# Altium schematic symbol library WCAP-PSLC.SchLib: 56 symbols (part 1 of 2)
Pins are listed as number, name and electrical type; pins without a type are passive.

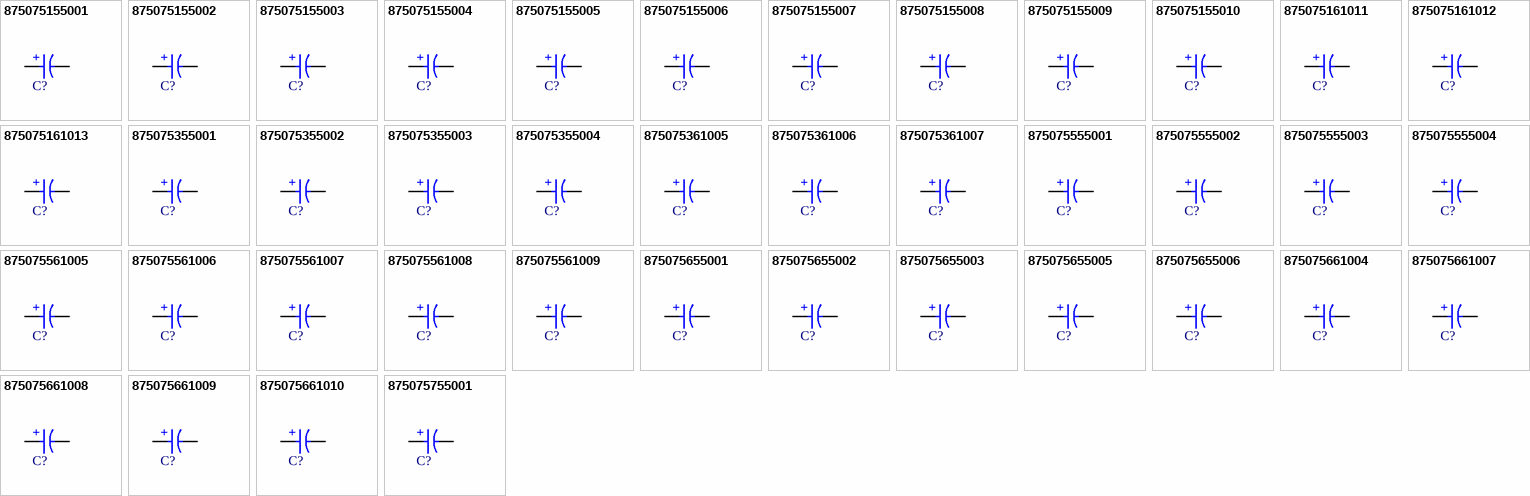
[diagram p0: symbols 875075155001 to 875075755001]

## 875075155001
designator C?, comment 180µF  (value not drawn)
WCAP-PSLC Aluminum Polymer Capacitor, V-Chip SMT, D8 x H11.7mm, 180µF, 6.3V; Manufacturer Part Number: 875075155001; Manufacturer: Wurth Elektronik; Capacitance Tolerance: +/-20%; Dissipation Factor: 8%; Endurance: 2000h; ESR: 8mΩ; Leakage Current: 226.8µA; Ripple Current: 5200mA; Technical Reference: PSEE117181M6R3DVCTFB000; Category: Aluminum Polymer Capacitors; Match Code: WCAP-PSLC; ComponentLink1Description: Website Link; ComponentLink1URL: https://www.we-online.com/redexpert/article/875075155001?ad; ComponentLink2Description: Datasheet Link; ComponentLink2URL: https://www.we-online.com/redexpert/spec/875075155001?ad; Mount: Surface Mount; Operating Temperature Max: 105°C; Operating Temperature Min: -55°C; Packaging: Tape and Reel; Height: 11.7mm; Diameter: 8mm; Capacitance: 180µF; Rated Voltage (DC): 6.3V
footprint WCAP-PSLC_D8H11.7
simulation model 875075155001_180uF
pins: 1 P, 2 N
text: +

## 875075155002
designator C?, comment 220µF  (value not drawn)
WCAP-PSLC Aluminum Polymer Capacitor, V-Chip SMT, D8 x H11.7mm, 220µF, 6.3V; Manufacturer Part Number: 875075155002; Manufacturer: Wurth Elektronik; Capacitance Tolerance: +/-20%; Dissipation Factor: 8%; Endurance: 2000h; ESR: 8mΩ; Leakage Current: 277.2µA; Ripple Current: 5200mA; Technical Reference: PSEE117221M6R3DVCTFB000; Category: Aluminum Polymer Capacitors; Match Code: WCAP-PSLC; ComponentLink1Description: Website Link; ComponentLink1URL: https://www.we-online.com/redexpert/article/875075155002?ad; ComponentLink2Description: Datasheet Link; ComponentLink2URL: https://www.we-online.com/redexpert/spec/875075155002?ad; Mount: Surface Mount; Operating Temperature Max: 105°C; Operating Temperature Min: -55°C; Packaging: Tape and Reel; Height: 11.7mm; Diameter: 8mm; Capacitance: 220µF; Rated Voltage (DC): 6.3V
footprint WCAP-PSLC_D8H11.7
simulation model 875075155002_220uF
pins: 1 P, 2 N
text: +

## 875075155003
designator C?, comment 270µF  (value not drawn)
WCAP-PSLC Aluminum Polymer Capacitor, V-Chip SMT, D8 x H11.7mm, 270µF, 6.3V; Manufacturer Part Number: 875075155003; Manufacturer: Wurth Elektronik; Capacitance Tolerance: +/-20%; Dissipation Factor: 8%; Endurance: 2000h; ESR: 8mΩ; Leakage Current: 340.2µA; Ripple Current: 5200mA; Technical Reference: PSEE117271M6R3DVCTFB000; Category: Aluminum Polymer Capacitors; Match Code: WCAP-PSLC; ComponentLink1Description: Website Link; ComponentLink1URL: https://www.we-online.com/redexpert/article/875075155003?ad; ComponentLink2Description: Datasheet Link; ComponentLink2URL: https://www.we-online.com/redexpert/spec/875075155003?ad; Mount: Surface Mount; Operating Temperature Max: 105°C; Operating Temperature Min: -55°C; Packaging: Tape and Reel; Height: 11.7mm; Diameter: 8mm; Capacitance: 270µF; Rated Voltage (DC): 6.3V
footprint WCAP-PSLC_D8H11.7
simulation model 875075155003_270uF
pins: 1 P, 2 N
text: +

## 875075155004
designator C?, comment 330µF  (value not drawn)
WCAP-PSLC Aluminum Polymer Capacitor, V-Chip SMT, D8 x H11.7mm, 330µF, 6.3V; Manufacturer Part Number: 875075155004; Manufacturer: Wurth Elektronik; Capacitance Tolerance: +/-20%; Dissipation Factor: 8%; Endurance: 2000h; ESR: 8mΩ; Leakage Current: 416µA; Ripple Current: 5200mA; Technical Reference: PSEE117331M6R3DVCTFB000; Category: Aluminum Polymer Capacitors; Match Code: WCAP-PSLC; ComponentLink1Description: Website Link; ComponentLink1URL: https://www.we-online.com/redexpert/article/875075155004?ad; ComponentLink2Description: Datasheet Link; ComponentLink2URL: https://www.we-online.com/redexpert/spec/875075155004?ad; Mount: Surface Mount; Operating Temperature Max: 105°C; Operating Temperature Min: -55°C; Packaging: Tape and Reel; Height: 11.7mm; Diameter: 8mm; Capacitance: 330µF; Rated Voltage (DC): 6.3V
footprint WCAP-PSLC_D8H11.7
simulation model 875075155004_330uF
pins: 1 P, 2 N
text: +

## 875075155005
designator C?, comment 390µF  (value not drawn)
WCAP-PSLC Aluminum Polymer Capacitor, V-Chip SMT, D8 x H11.7mm, 390µF, 6.3V; Manufacturer Part Number: 875075155005; Manufacturer: Wurth Elektronik; Capacitance Tolerance: +/-20%; Dissipation Factor: 8%; Endurance: 2000h; ESR: 8mΩ; Leakage Current: 491µA; Ripple Current: 5200mA; Technical Reference: PSEE117391M6R3DVCTFB000; Category: Aluminum Polymer Capacitors; Match Code: WCAP-PSLC; ComponentLink1Description: Website Link; ComponentLink1URL: https://www.we-online.com/redexpert/article/875075155005?ad; ComponentLink2Description: Datasheet Link; ComponentLink2URL: https://www.we-online.com/redexpert/spec/875075155005?ad; Mount: Surface Mount; Operating Temperature Max: 105°C; Operating Temperature Min: -55°C; Packaging: Tape and Reel; Height: 11.7mm; Diameter: 8mm; Capacitance: 390µF; Rated Voltage (DC): 6.3V
footprint WCAP-PSLC_D8H11.7
simulation model 875075155005_390uF
pins: 1 P, 2 N
text: +

## 875075155006
designator C?, comment 470µF  (value not drawn)
WCAP-PSLC Aluminum Polymer Capacitor, V-Chip SMT, D8 x H11.7mm, 470µF, 6.3V; Manufacturer Part Number: 875075155006; Manufacturer: Wurth Elektronik; Capacitance Tolerance: +/-20%; Dissipation Factor: 8%; Endurance: 2000h; ESR: 8mΩ; Leakage Current: 592µA; Ripple Current: 5200mA; Technical Reference: PSEE117471M6R3DVCTFB000; Category: Aluminum Polymer Capacitors; Match Code: WCAP-PSLC; ComponentLink1Description: Website Link; ComponentLink1URL: https://www.we-online.com/redexpert/article/875075155006?ad; ComponentLink2Description: Datasheet Link; ComponentLink2URL: https://www.we-online.com/redexpert/spec/875075155006?ad; Mount: Surface Mount; Operating Temperature Max: 105°C; Operating Temperature Min: -55°C; Packaging: Tape and Reel; Height: 11.7mm; Diameter: 8mm; Capacitance: 470µF; Rated Voltage (DC): 6.3V
footprint WCAP-PSLC_D8H11.7
simulation model 875075155006_470uF
pins: 1 P, 2 N
text: +

## 875075155007
designator C?, comment 560µF  (value not drawn)
WCAP-PSLC Aluminum Polymer Capacitor, V-Chip SMT, D8 x H11.7mm, 560µF, 6.3V; Manufacturer Part Number: 875075155007; Manufacturer: Wurth Elektronik; Capacitance Tolerance: +/-20%; Dissipation Factor: 8%; Endurance: 2000h; ESR: 8mΩ; Leakage Current: 705.6µA; Ripple Current: 5200mA; Technical Reference: PSEE117561M6R3DVCTFB000; Category: Aluminum Polymer Capacitors; Match Code: WCAP-PSLC; ComponentLink1Description: Website Link; ComponentLink1URL: https://www.we-online.com/redexpert/article/875075155007?ad; ComponentLink2Description: Datasheet Link; ComponentLink2URL: https://www.we-online.com/redexpert/spec/875075155007?ad; Mount: Surface Mount; Operating Temperature Max: 105°C; Operating Temperature Min: -55°C; Packaging: Tape and Reel; Height: 11.7mm; Diameter: 8mm; Capacitance: 560µF; Rated Voltage (DC): 6.3V
footprint WCAP-PSLC_D8H11.7
pins: 1 P, 2 N
text: +

## 875075155008
designator C?, comment 680µF  (value not drawn)
WCAP-PSLC Aluminum Polymer Capacitor, V-Chip SMT, D8 x H11.7mm, 680µF, 6.3V; Manufacturer Part Number: 875075155008; Manufacturer: Wurth Elektronik; Capacitance Tolerance: +/-20%; Dissipation Factor: 8%; Endurance: 2000h; ESR: 8mΩ; Leakage Current: 856µA; Ripple Current: 5200mA; Technical Reference: PSEE117681M6R3DVCTFB000; Category: Aluminum Polymer Capacitors; Match Code: WCAP-PSLC; ComponentLink1Description: Website Link; ComponentLink1URL: https://www.we-online.com/redexpert/article/875075155008?ad; ComponentLink2Description: Datasheet Link; ComponentLink2URL: https://www.we-online.com/redexpert/spec/875075155008?ad; Mount: Surface Mount; Operating Temperature Max: 105°C; Operating Temperature Min: -55°C; Packaging: Tape and Reel; Height: 11.7mm; Diameter: 8mm; Capacitance: 680µF; Rated Voltage (DC): 6.3V
footprint WCAP-PSLC_D8H11.7
simulation model 875075155008_680uF
pins: 1 P, 2 N
text: +

## 875075155009
designator C?, comment 820µF  (value not drawn)
WCAP-PSLC Aluminum Polymer Capacitor, V-Chip SMT, D8 x H11.7mm, 820µF, 6.3V; Manufacturer Part Number: 875075155009; Manufacturer: Wurth Elektronik; Capacitance Tolerance: +/-20%; Dissipation Factor: 10%; Endurance: 2000h; ESR: 8mΩ; Leakage Current: 1033.2µA; Ripple Current: 5200mA; Technical Reference: PSEE117821M6R3DVCTFB000; Category: Aluminum Polymer Capacitors; Match Code: WCAP-PSLC; ComponentLink1Description: Website Link; ComponentLink1URL: https://www.we-online.com/redexpert/article/875075155009?ad; ComponentLink2Description: Datasheet Link; ComponentLink2URL: https://www.we-online.com/redexpert/spec/875075155009?ad; Mount: Surface Mount; Operating Temperature Max: 105°C; Operating Temperature Min: -55°C; Packaging: Tape and Reel; Height: 11.7mm; Diameter: 8mm; Capacitance: 820µF; Rated Voltage (DC): 6.3V
footprint WCAP-PSLC_D8H11.7
simulation model 875075155009_820uF
pins: 1 P, 2 N
text: +

## 875075155010
designator C?, comment 1000µF  (value not drawn)
WCAP-PSLC Aluminum Polymer Capacitor, V-Chip SMT, D8 x H11.7mm, 1000µF, 6.3V; Manufacturer Part Number: 875075155010; Manufacturer: Wurth Elektronik; Capacitance Tolerance: +/-20%; Dissipation Factor: 10%; Endurance: 2000h; ESR: 8mΩ; Leakage Current: 1260µA; Ripple Current: 5200mA; Technical Reference: PSEE117102M6R3DVCTFB000; Category: Aluminum Polymer Capacitors; Match Code: WCAP-PSLC; ComponentLink1Description: Website Link; ComponentLink1URL: https://www.we-online.com/redexpert/article/875075155010?ad; ComponentLink2Description: Datasheet Link; ComponentLink2URL: https://www.we-online.com/redexpert/spec/875075155010?ad; Mount: Surface Mount; Operating Temperature Max: 105°C; Operating Temperature Min: -55°C; Packaging: Tape and Reel; Height: 11.7mm; Diameter: 8mm; Capacitance: 1000µF; Rated Voltage (DC): 6.3V
footprint WCAP-PSLC_D8H11.7
simulation model 875075155010_1mF
pins: 1 P, 2 N
text: +

## 875075161011
designator C?, comment 1200µF  (value not drawn)
WCAP-PSLC Aluminum Polymer Capacitor, V-Chip SMT, D10 x H12.4mm, 1200µF, 6.3V; Manufacturer Part Number: 875075161011; Manufacturer: Wurth Elektronik; Capacitance Tolerance: +/-20%; Dissipation Factor: 10%; Endurance: 2000h; ESR: 8mΩ; Leakage Current: 1512µA; Ripple Current: 5500mA; Technical Reference: PSEF124122M6R3DVCTFB000; Category: Aluminum Polymer Capacitors; Match Code: WCAP-PSLC; ComponentLink1Description: Website Link; ComponentLink1URL: https://www.we-online.com/redexpert/article/875075161011?ad; ComponentLink2Description: Datasheet Link; ComponentLink2URL: https://www.we-online.com/redexpert/spec/875075161011?ad; Mount: Surface Mount; Operating Temperature Max: 105°C; Operating Temperature Min: -55°C; Packaging: Tape and Reel; Height: 12.4mm; Diameter: 10mm; Capacitance: 1200µF; Rated Voltage (DC): 6.3V
footprint WCAP-PSLC_D10H12.4
simulation model 875075161011_1.2mF
pins: 1 P, 2 N
text: +

## 875075161012
designator C?, comment 1500µF  (value not drawn)
WCAP-PSLC Aluminum Polymer Capacitor, V-Chip SMT, D10 x H12.4mm, 1500µF, 6.3V; Manufacturer Part Number: 875075161012; Manufacturer: Wurth Elektronik; Capacitance Tolerance: +/-20%; Dissipation Factor: 10%; Endurance: 2000h; ESR: 8mΩ; Leakage Current: 1890µA; Ripple Current: 5500mA; Technical Reference: PSEF124152M6R3DVCTFB000; Category: Aluminum Polymer Capacitors; Match Code: WCAP-PSLC; ComponentLink1Description: Website Link; ComponentLink1URL: https://www.we-online.com/redexpert/article/875075161012?ad; ComponentLink2Description: Datasheet Link; ComponentLink2URL: https://www.we-online.com/redexpert/spec/875075161012?ad; Mount: Surface Mount; Operating Temperature Max: 105°C; Operating Temperature Min: -55°C; Packaging: Tape and Reel; Height: 12.4mm; Diameter: 10mm; Capacitance: 1500µF; Rated Voltage (DC): 6.3V
footprint WCAP-PSLC_D10H12.4
simulation model 875075161012_1.5mF
pins: 1 P, 2 N
text: +

## 875075161013
designator C?, comment 2000µF  (value not drawn)
WCAP-PSLC Aluminum Polymer Capacitor, V-Chip SMT, D10 x H12.4mm, 2000µF, 6.3V; Manufacturer Part Number: 875075161013; Manufacturer: Wurth Elektronik; Capacitance Tolerance: +/-20%; Dissipation Factor: 10%; Endurance: 2000h; ESR: 8mΩ; Leakage Current: 2520µA; Ripple Current: 5500mA; Technical Reference: PSEF124202M6R3DVCTFB000; Category: Aluminum Polymer Capacitors; Match Code: WCAP-PSLC; ComponentLink1Description: Website Link; ComponentLink1URL: https://www.we-online.com/redexpert/article/875075161013?ad; ComponentLink2Description: Datasheet Link; ComponentLink2URL: https://www.we-online.com/redexpert/spec/875075161013?ad; Mount: Surface Mount; Operating Temperature Max: 105°C; Operating Temperature Min: -55°C; Packaging: Tape and Reel; Height: 12.4mm; Diameter: 10mm; Capacitance: 2000µF; Rated Voltage (DC): 6.3V
footprint WCAP-PSLC_D10H12.4
simulation model 875075161013_2mF
pins: 1 P, 2 N
text: +

## 875075355001
designator C?, comment 180µF  (value not drawn)
WCAP-PSLC Aluminum Polymer Capacitor, V-Chip SMT, D8 x H11.7mm, 180µF, 16V; Manufacturer Part Number: 875075355001; Manufacturer: Wurth Elektronik; Capacitance Tolerance: +/-20%; Dissipation Factor: 8%; Endurance: 2000h; ESR: 10mΩ; Leakage Current: 576µA; Ripple Current: 4700mA; Technical Reference: PSEE117181M016DVCTFB000; Category: Aluminum Polymer Capacitors; Match Code: WCAP-PSLC; ComponentLink1Description: Website Link; ComponentLink1URL: https://www.we-online.com/redexpert/article/875075355001?ad; ComponentLink2Description: Datasheet Link; ComponentLink2URL: https://www.we-online.com/redexpert/spec/875075355001?ad; Mount: Surface Mount; Operating Temperature Max: 105°C; Operating Temperature Min: -55°C; Packaging: Tape and Reel; Height: 11.7mm; Diameter: 8mm; Capacitance: 180µF; Rated Voltage (DC): 16V
footprint WCAP-PSLC_D8H11.7
simulation model 875075355001_180uF
pins: 1 P, 2 N
text: +

## 875075355002
designator C?, comment 220µF  (value not drawn)
WCAP-PSLC Aluminum Polymer Capacitor, V-Chip SMT, D8 x H11.7mm, 220µF, 16V; Manufacturer Part Number: 875075355002; Manufacturer: Wurth Elektronik; Capacitance Tolerance: +/-20%; Dissipation Factor: 8%; Endurance: 2000h; ESR: 10mΩ; Leakage Current: 704µA; Ripple Current: 4700mA; Technical Reference: PSEE117221M016DVCTFB000; Category: Aluminum Polymer Capacitors; Match Code: WCAP-PSLC; ComponentLink1Description: Website Link; ComponentLink1URL: https://www.we-online.com/redexpert/article/875075355002?ad; ComponentLink2Description: Datasheet Link; ComponentLink2URL: https://www.we-online.com/redexpert/spec/875075355002?ad; Mount: Surface Mount; Operating Temperature Max: 105°C; Operating Temperature Min: -55°C; Packaging: Tape and Reel; Height: 11.7mm; Diameter: 8mm; Capacitance: 220µF; Rated Voltage (DC): 16V
footprint WCAP-PSLC_D8H11.7
simulation model 875075355002_220uF
pins: 1 P, 2 N
text: +

## 875075355003
designator C?, comment 270µF  (value not drawn)
WCAP-PSLC Aluminum Polymer Capacitor, V-Chip SMT, D8 x H11.7mm, 270µF, 16V; Manufacturer Part Number: 875075355003; Manufacturer: Wurth Elektronik; Capacitance Tolerance: +/-20%; Dissipation Factor: 8%; Endurance: 2000h; ESR: 10mΩ; Leakage Current: 864µA; Ripple Current: 4700mA; Technical Reference: PSEE117271M016DVCTFB000; Category: Aluminum Polymer Capacitors; Match Code: WCAP-PSLC; ComponentLink1Description: Website Link; ComponentLink1URL: https://www.we-online.com/redexpert/article/875075355003?ad; ComponentLink2Description: Datasheet Link; ComponentLink2URL: https://www.we-online.com/redexpert/spec/875075355003?ad; Mount: Surface Mount; Operating Temperature Max: 105°C; Operating Temperature Min: -55°C; Packaging: Tape and Reel; Height: 11.7mm; Diameter: 8mm; Capacitance: 270µF; Rated Voltage (DC): 16V
footprint WCAP-PSLC_D8H11.7
simulation model 875075355003_270uF
pins: 1 P, 2 N
text: +

## 875075355004
designator C?, comment 330µF  (value not drawn)
WCAP-PSLC Aluminum Polymer Capacitor, V-Chip SMT, D8 x H11.7mm, 330µF, 16V; Manufacturer Part Number: 875075355004; Manufacturer: Wurth Elektronik; Capacitance Tolerance: +/-20%; Dissipation Factor: 8%; Endurance: 2000h; ESR: 10mΩ; Leakage Current: 1056µA; Ripple Current: 4700mA; Technical Reference: PSEE117331M016DVCTFB000; Category: Aluminum Polymer Capacitors; Match Code: WCAP-PSLC; ComponentLink1Description: Website Link; ComponentLink1URL: https://www.we-online.com/redexpert/article/875075355004?ad; ComponentLink2Description: Datasheet Link; ComponentLink2URL: https://www.we-online.com/redexpert/spec/875075355004?ad; Mount: Surface Mount; Operating Temperature Max: 105°C; Operating Temperature Min: -55°C; Packaging: Tape and Reel; Height: 11.7mm; Diameter: 8mm; Capacitance: 330µF; Rated Voltage (DC): 16V
footprint WCAP-PSLC_D8H11.7
simulation model 875075355004_330uF
pins: 1 P, 2 N
text: +

## 875075361005
designator C?, comment 470µF  (value not drawn)
WCAP-PSLC Aluminum Polymer Capacitor, V-Chip SMT, D10 x H12.4mm, 470µF, 16V; Manufacturer Part Number: 875075361005; Manufacturer: Wurth Elektronik; Capacitance Tolerance: +/-20%; Dissipation Factor: 10%; Endurance: 2000h; ESR: 10mΩ; Leakage Current: 1504µA; Ripple Current: 5100mA; Technical Reference: PSEF124471M016DVCTFB000; Category: Aluminum Polymer Capacitors; Match Code: WCAP-PSLC; ComponentLink1Description: Website Link; ComponentLink1URL: https://www.we-online.com/redexpert/article/875075361005?ad; ComponentLink2Description: Datasheet Link; ComponentLink2URL: https://www.we-online.com/redexpert/spec/875075361005?ad; Mount: Surface Mount; Operating Temperature Max: 105°C; Operating Temperature Min: -55°C; Packaging: Tape and Reel; Height: 12.4mm; Diameter: 10mm; Capacitance: 470µF; Rated Voltage (DC): 16V
footprint WCAP-PSLC_D10H12.4
simulation model 875075361005_470uF
pins: 1 P, 2 N
text: +

## 875075361006
designator C?, comment 680µF  (value not drawn)
WCAP-PSLC Aluminum Polymer Capacitor, V-Chip SMT, D10 x H12.4mm, 680µF, 16V; Manufacturer Part Number: 875075361006; Manufacturer: Wurth Elektronik; Capacitance Tolerance: +/-20%; Dissipation Factor: 10%; Endurance: 2000h; ESR: 10mΩ; Leakage Current: 2176µA; Ripple Current: 5100mA; Technical Reference: PSEF124681M016DVCTFB000; Category: Aluminum Polymer Capacitors; Match Code: WCAP-PSLC; ComponentLink1Description: Website Link; ComponentLink1URL: https://www.we-online.com/redexpert/article/875075361006?ad; ComponentLink2Description: Datasheet Link; ComponentLink2URL: https://www.we-online.com/redexpert/spec/875075361006?ad; Mount: Surface Mount; Operating Temperature Max: 105°C; Operating Temperature Min: -55°C; Packaging: Tape and Reel; Height: 12.4mm; Diameter: 10mm; Capacitance: 680µF; Rated Voltage (DC): 16V
footprint WCAP-PSLC_D10H12.4
simulation model 875075361006_680uF
pins: 1 P, 2 N
text: +

## 875075361007
designator C?, comment 820µF  (value not drawn)
WCAP-PSLC Aluminum Polymer Capacitor, V-Chip SMT, D10 x H12.4mm, 820µF, 16V; Manufacturer Part Number: 875075361007; Manufacturer: Wurth Elektronik; Capacitance Tolerance: +/-20%; Dissipation Factor: 10%; Endurance: 2000h; ESR: 10mΩ; Leakage Current: 2624µA; Ripple Current: 5100mA; Technical Reference: PSEF124821M016DVCTFB000; Category: Aluminum Polymer Capacitors; Match Code: WCAP-PSLC; ComponentLink1Description: Website Link; ComponentLink1URL: https://www.we-online.com/redexpert/article/875075361007?ad; ComponentLink2Description: Datasheet Link; ComponentLink2URL: https://www.we-online.com/redexpert/spec/875075361007?ad; Mount: Surface Mount; Operating Temperature Max: 105°C; Operating Temperature Min: -55°C; Packaging: Tape and Reel; Height: 12.4mm; Diameter: 10mm; Capacitance: 820µF; Rated Voltage (DC): 16V
footprint WCAP-PSLC_D10H12.4
simulation model 875075361007_820uF
pins: 1 P, 2 N
text: +

## 875075555001
designator C?, comment 39µF  (value not drawn)
WCAP-PSLC Aluminum Polymer Capacitor, V-Chip SMT, D8 x H11.7mm, 39µF, 25V; Manufacturer Part Number: 875075555001; Manufacturer: Wurth Elektronik; Capacitance Tolerance: +/-20%; Dissipation Factor: 8%; Endurance: 2000h; ESR: 15mΩ; Leakage Current: 195µA; Ripple Current: 4210mA; Technical Reference: PSEE117390M025DVCTFB000; Category: Aluminum Polymer Capacitors; Match Code: WCAP-PSLC; ComponentLink1Description: Website Link; ComponentLink1URL: https://www.we-online.com/redexpert/article/875075555001?ad; ComponentLink2Description: Datasheet Link; ComponentLink2URL: https://www.we-online.com/redexpert/spec/875075555001?ad; Mount: Surface Mount; Operating Temperature Max: 105°C; Operating Temperature Min: -55°C; Packaging: Tape and Reel; Height: 11.7mm; Diameter: 8mm; Capacitance: 39µF; Rated Voltage (DC): 25V
footprint WCAP-PSLC_D8H11.7
simulation model 875075555001_39uF
pins: 1 P, 2 N
text: +

## 875075555002
designator C?, comment 47µF  (value not drawn)
WCAP-PSLC Aluminum Polymer Capacitor, V-Chip SMT, D8 x H11.7mm, 47µF, 25V; Manufacturer Part Number: 875075555002; Manufacturer: Wurth Elektronik; Capacitance Tolerance: +/-20%; Dissipation Factor: 8%; Endurance: 2000h; ESR: 15mΩ; Leakage Current: 235µA; Ripple Current: 4210mA; Technical Reference: PSEE117470M025DVCTFB000; Category: Aluminum Polymer Capacitors; Match Code: WCAP-PSLC; ComponentLink1Description: Website Link; ComponentLink1URL: https://www.we-online.com/redexpert/article/875075555002?ad; ComponentLink2Description: Datasheet Link; ComponentLink2URL: https://www.we-online.com/redexpert/spec/875075555002?ad; Mount: Surface Mount; Operating Temperature Max: 105°C; Operating Temperature Min: -55°C; Packaging: Tape and Reel; Height: 11.7mm; Diameter: 8mm; Capacitance: 47µF; Rated Voltage (DC): 25V
footprint WCAP-PSLC_D8H11.7
simulation model 875075555002_47uF
pins: 1 P, 2 N
text: +

## 875075555003
designator C?, comment 68µF  (value not drawn)
WCAP-PSLC Aluminum Polymer Capacitor, V-Chip SMT, D8 x H11.7mm, 68µF, 25V; Manufacturer Part Number: 875075555003; Manufacturer: Wurth Elektronik; Capacitance Tolerance: +/-20%; Dissipation Factor: 8%; Endurance: 2000h; ESR: 15mΩ; Leakage Current: 340µA; Ripple Current: 4210mA; Technical Reference: PSEE117680M025DVCTFB000; Category: Aluminum Polymer Capacitors; Match Code: WCAP-PSLC; ComponentLink1Description: Website Link; ComponentLink1URL: https://www.we-online.com/redexpert/article/875075555003?ad; ComponentLink2Description: Datasheet Link; ComponentLink2URL: https://www.we-online.com/redexpert/spec/875075555003?ad; Mount: Surface Mount; Operating Temperature Max: 105°C; Operating Temperature Min: -55°C; Packaging: Tape and Reel; Height: 11.7mm; Diameter: 8mm; Capacitance: 68µF; Rated Voltage (DC): 25V
footprint WCAP-PSLC_D8H11.7
simulation model 875075555003_68uF
pins: 1 P, 2 N
text: +

## 875075555004
designator C?, comment 82µF  (value not drawn)
WCAP-PSLC Aluminum Polymer Capacitor, V-Chip SMT, D8 x H11.7mm, 82µF, 25V; Manufacturer Part Number: 875075555004; Manufacturer: Wurth Elektronik; Capacitance Tolerance: +/-20%; Dissipation Factor: 8%; Endurance: 2000h; ESR: 15mΩ; Leakage Current: 410µA; Ripple Current: 4210mA; Technical Reference: PSEE117820M025DVCTFB000; Category: Aluminum Polymer Capacitors; Match Code: WCAP-PSLC; ComponentLink1Description: Website Link; ComponentLink1URL: https://www.we-online.com/redexpert/article/875075555004?ad; ComponentLink2Description: Datasheet Link; ComponentLink2URL: https://www.we-online.com/redexpert/spec/875075555004?ad; Mount: Surface Mount; Operating Temperature Max: 105°C; Operating Temperature Min: -55°C; Packaging: Tape and Reel; Height: 11.7mm; Diameter: 8mm; Capacitance: 82µF; Rated Voltage (DC): 25V
footprint WCAP-PSLC_D8H11.7
simulation model 875075555004_82uF
pins: 1 P, 2 N
text: +

## 875075561005
designator C?, comment 100µF  (value not drawn)
WCAP-PSLC Aluminum Polymer Capacitor, V-Chip SMT, D10 x H12.4mm, 100µF, 25V; Manufacturer Part Number: 875075561005; Manufacturer: Wurth Elektronik; Capacitance Tolerance: +/-20%; Dissipation Factor: 10%; Endurance: 2000h; ESR: 15mΩ; Leakage Current: 500µA; Ripple Current: 4800mA; Technical Reference: PSEF124101M025DVCTFB000; Category: Aluminum Polymer Capacitors; Match Code: WCAP-PSLC; ComponentLink1Description: Website Link; ComponentLink1URL: https://www.we-online.com/redexpert/article/875075561005?ad; ComponentLink2Description: Datasheet Link; ComponentLink2URL: https://www.we-online.com/redexpert/spec/875075561005?ad; Mount: Surface Mount; Operating Temperature Max: 105°C; Operating Temperature Min: -55°C; Packaging: Tape and Reel; Height: 12.4mm; Diameter: 10mm; Capacitance: 100µF; Rated Voltage (DC): 25V
footprint WCAP-PSLC_D10H12.4
simulation model 875075561005_100uF
pins: 1 P, 2 N
text: +

## 875075561006
designator C?, comment 150µF  (value not drawn)
WCAP-PSLC Aluminum Polymer Capacitor, V-Chip SMT, D10 x H12.4mm, 150µF, 25V; Manufacturer Part Number: 875075561006; Manufacturer: Wurth Elektronik; Capacitance Tolerance: +/-20%; Dissipation Factor: 10%; Endurance: 2000h; ESR: 15mΩ; Leakage Current: 750µA; Ripple Current: 4800mA; Technical Reference: PSEF124151M025DVCTFB000; Category: Aluminum Polymer Capacitors; Match Code: WCAP-PSLC; ComponentLink1Description: Website Link; ComponentLink1URL: https://www.we-online.com/redexpert/article/875075561006?ad; ComponentLink2Description: Datasheet Link; ComponentLink2URL: https://www.we-online.com/redexpert/spec/875075561006?ad; Mount: Surface Mount; Operating Temperature Max: 105°C; Operating Temperature Min: -55°C; Packaging: Tape and Reel; Height: 12.4mm; Diameter: 10mm; Capacitance: 150µF; Rated Voltage (DC): 25V
footprint WCAP-PSLC_D10H12.4
simulation model 875075561006_150uF
pins: 1 P, 2 N
text: +

## 875075561007
designator C?, comment 180µF  (value not drawn)
WCAP-PSLC Aluminum Polymer Capacitor, V-Chip SMT, D10 x H12.4mm, 180µF, 25V; Manufacturer Part Number: 875075561007; Manufacturer: Wurth Elektronik; Capacitance Tolerance: +/-20%; Dissipation Factor: 10%; Endurance: 2000h; ESR: 15mΩ; Leakage Current: 900µA; Ripple Current: 4800mA; Technical Reference: PSEF124181M025DVCTFB000; Category: Aluminum Polymer Capacitors; Match Code: WCAP-PSLC; ComponentLink1Description: Website Link; ComponentLink1URL: https://www.we-online.com/redexpert/article/875075561007?ad; ComponentLink2Description: Datasheet Link; ComponentLink2URL: https://www.we-online.com/redexpert/spec/875075561007?ad; Mount: Surface Mount; Operating Temperature Max: 105°C; Operating Temperature Min: -55°C; Packaging: Tape and Reel; Height: 12.4mm; Diameter: 10mm; Capacitance: 180µF; Rated Voltage (DC): 25V
footprint WCAP-PSLC_D10H12.4
simulation model 875075561007_180uF
pins: 1 P, 2 N
text: +

## 875075561008
designator C?, comment 220µF  (value not drawn)
WCAP-PSLC Aluminum Polymer Capacitor, V-Chip SMT, D10 x H12.4mm, 220µF, 25V; Manufacturer Part Number: 875075561008; Manufacturer: Wurth Elektronik; Capacitance Tolerance: +/-20%; Dissipation Factor: 10%; Endurance: 2000h; ESR: 15mΩ; Leakage Current: 1100µA; Ripple Current: 4800mA; Technical Reference: PSEF124221M025DVCTFB000; Category: Aluminum Polymer Capacitors; Match Code: WCAP-PSLC; ComponentLink1Description: Website Link; ComponentLink1URL: https://www.we-online.com/redexpert/article/875075561008?ad; ComponentLink2Description: Datasheet Link; ComponentLink2URL: https://www.we-online.com/redexpert/spec/875075561008?ad; Mount: Surface Mount; Operating Temperature Max: 105°C; Operating Temperature Min: -55°C; Packaging: Tape and Reel; Height: 12.4mm; Diameter: 10mm; Capacitance: 220µF; Rated Voltage (DC): 25V
footprint WCAP-PSLC_D10H12.4
simulation model 875075561008_220uF
pins: 1 P, 2 N
text: +

## 875075561009
designator C?, comment 270µF  (value not drawn)
WCAP-PSLC Aluminum Polymer Capacitor, V-Chip SMT, D10 x H12.4mm, 270µF, 25V; Manufacturer Part Number: 875075561009; Manufacturer: Wurth Elektronik; Capacitance Tolerance: +/-20%; Dissipation Factor: 10%; Endurance: 2000h; ESR: 15mΩ; Leakage Current: 1350µA; Ripple Current: 4800mA; Technical Reference: PSEF124271M025DVCTFB000; Category: Aluminum Polymer Capacitors; Match Code: WCAP-PSLC; ComponentLink1Description: Website Link; ComponentLink1URL: https://www.we-online.com/redexpert/article/875075561009?ad; ComponentLink2Description: Datasheet Link; ComponentLink2URL: https://www.we-online.com/redexpert/spec/875075561009?ad; Mount: Surface Mount; Operating Temperature Max: 105°C; Operating Temperature Min: -55°C; Packaging: Tape and Reel; Height: 12.4mm; Diameter: 10mm; Capacitance: 270µF; Rated Voltage (DC): 25V
footprint WCAP-PSLC_D10H12.4
simulation model 875075561009_270uF
pins: 1 P, 2 N
text: +

## 875075655001
designator C?, comment 39µF  (value not drawn)
WCAP-PSLC Aluminum Polymer Capacitor, V-Chip SMT, D8 x H11.7mm, 39µF, 35V; Manufacturer Part Number: 875075655001; Manufacturer: Wurth Elektronik; Capacitance Tolerance: +/-20%; Dissipation Factor: 12%; Endurance: 2000h; ESR: 32mΩ; Leakage Current: 273µA; Ripple Current: 2700mA; Technical Reference: PSEE117390M035DVCTFB000; Category: Aluminum Polymer Capacitors; Match Code: WCAP-PSLC; ComponentLink1Description: Website Link; ComponentLink1URL: https://www.we-online.com/redexpert/article/875075655001?ad; ComponentLink2Description: Datasheet Link; ComponentLink2URL: https://www.we-online.com/redexpert/spec/875075655001?ad; Mount: Surface Mount; Operating Temperature Max: 105°C; Operating Temperature Min: -55°C; Packaging: Tape and Reel; Height: 11.7mm; Diameter: 8mm; Capacitance: 39µF; Rated Voltage (DC): 35V
footprint WCAP-PSLC_D8H11.7
simulation model 875075655001_39uF
pins: 1 P, 2 N
text: +

## 875075655002
designator C?, comment 68µF  (value not drawn)
WCAP-PSLC Aluminum Polymer Capacitor, V-Chip SMT, D8 x H11.7mm, 68µF, 35V; Manufacturer Part Number: 875075655002; Manufacturer: Wurth Elektronik; Capacitance Tolerance: +/-20%; Dissipation Factor: 12%; Endurance: 2000h; ESR: 28mΩ; Leakage Current: 476µA; Ripple Current: 3300mA; Technical Reference: PSEE117680M035DVCTFB000; Category: Aluminum Polymer Capacitors; Match Code: WCAP-PSLC; ComponentLink1Description: Website Link; ComponentLink1URL: https://www.we-online.com/redexpert/article/875075655002?ad; ComponentLink2Description: Datasheet Link; ComponentLink2URL: https://www.we-online.com/redexpert/spec/875075655002?ad; Mount: Surface Mount; Operating Temperature Max: 105°C; Operating Temperature Min: -55°C; Packaging: Tape and Reel; Height: 11.7mm; Diameter: 8mm; Capacitance: 68µF; Rated Voltage (DC): 35V
footprint WCAP-PSLC_D8H11.7
simulation model 875075655002_68uF
pins: 1 P, 2 N
text: +

## 875075655003
designator C?, comment 82µF  (value not drawn)
WCAP-PSLC Aluminum Polymer Capacitor, V-Chip SMT, D8 x H11.7mm, 82µF, 35V; Manufacturer Part Number: 875075655003; Manufacturer: Wurth Elektronik; Capacitance Tolerance: +/-20%; Dissipation Factor: 12%; Endurance: 2000h; ESR: 28mΩ; Leakage Current: 574µA; Ripple Current: 3300mA; Technical Reference: PSEE117820M035DVCTFB000; Category: Aluminum Polymer Capacitors; Match Code: WCAP-PSLC; ComponentLink1Description: Website Link; ComponentLink1URL: https://www.we-online.com/redexpert/article/875075655003?ad; ComponentLink2Description: Datasheet Link; ComponentLink2URL: https://www.we-online.com/redexpert/spec/875075655003?ad; Mount: Surface Mount; Operating Temperature Max: 105°C; Operating Temperature Min: -55°C; Packaging: Tape and Reel; Height: 11.7mm; Diameter: 8mm; Capacitance: 82µF; Rated Voltage (DC): 35V
footprint WCAP-PSLC_D8H11.7
simulation model 875075655003_82uF
pins: 1 P, 2 N
text: +

## 875075655005
designator C?, comment 120µF  (value not drawn)
WCAP-PSLC Aluminum Polymer Capacitor, V-Chip SMT, D8 x H11.7mm, 120µF, 35V; Manufacturer Part Number: 875075655005; Manufacturer: Wurth Elektronik; Capacitance Tolerance: +/-20%; Dissipation Factor: 12%; Endurance: 2000h; ESR: 25mΩ; Leakage Current: 840µA; Ripple Current: 3800mA; Technical Reference: PSEE117121M035DVCTFB000; Category: Aluminum Polymer Capacitors; Match Code: WCAP-PSLC; ComponentLink1Description: Website Link; ComponentLink1URL: https://www.we-online.com/redexpert/article/875075655005?ad; ComponentLink2Description: Datasheet Link; ComponentLink2URL: https://www.we-online.com/redexpert/spec/875075655005?ad; Mount: Surface Mount; Operating Temperature Max: 105°C; Operating Temperature Min: -55°C; Packaging: Tape and Reel; Height: 11.7mm; Diameter: 8mm; Capacitance: 120µF; Rated Voltage (DC): 35V
footprint WCAP-PSLC_D8H11.7
simulation model 875075655005_120uF
pins: 1 P, 2 N
text: +

## 875075655006
designator C?, comment 150µF  (value not drawn)
WCAP-PSLC Aluminum Polymer Capacitor, V-Chip SMT, D8 x H11.7mm, 150µF, 35V; Manufacturer Part Number: 875075655006; Manufacturer: Wurth Elektronik; Capacitance Tolerance: +/-20%; Dissipation Factor: 12%; Endurance: 2000h; ESR: 25mΩ; Leakage Current: 840µA; Ripple Current: 3800mA; Technical Reference: PSEE117151M035DVCTFB000; Category: Aluminum Polymer Capacitors; Match Code: WCAP-PSLC; ComponentLink1Description: Website Link; ComponentLink1URL: https://www.we-online.com/redexpert/article/875075655006?ad; ComponentLink2Description: Datasheet Link; ComponentLink2URL: https://www.we-online.com/redexpert/spec/875075655006?ad; Mount: Surface Mount; Operating Temperature Max: 105°C; Operating Temperature Min: -55°C; Packaging: Tape and Reel; Height: 11.7mm; Diameter: 8mm; Capacitance: 150µF; Rated Voltage (DC): 35V
footprint WCAP-PSLC_D8H11.7
simulation model 875075655006_150uF
pins: 1 P, 2 N
text: +

## 875075661004
designator C?, comment 100µF  (value not drawn)
WCAP-PSLC Aluminum Polymer Capacitor, V-Chip SMT, D10 x H12.4mm, 100µF, 35V; Manufacturer Part Number: 875075661004; Manufacturer: Wurth Elektronik; Capacitance Tolerance: +/-20%; Dissipation Factor: 12%; Endurance: 2000h; ESR: 25mΩ; Leakage Current: 700µA; Ripple Current: 3800mA; Technical Reference: PSEF124101M035DVCTFB000; Category: Aluminum Polymer Capacitors; Match Code: WCAP-PSLC; ComponentLink1Description: Website Link; ComponentLink1URL: https://www.we-online.com/redexpert/article/875075661004?ad; ComponentLink2Description: Datasheet Link; ComponentLink2URL: https://www.we-online.com/redexpert/spec/875075661004?ad; Mount: Surface Mount; Operating Temperature Max: 105°C; Operating Temperature Min: -55°C; Packaging: Tape and Reel; Height: 12.4mm; Diameter: 10mm; Capacitance: 100µF; Rated Voltage (DC): 35V
footprint WCAP-PSLC_D10H12.4
simulation model 875075661004_100uF
pins: 1 P, 2 N
text: +

## 875075661007
designator C?, comment 180µF  (value not drawn)
WCAP-PSLC Aluminum Polymer Capacitor, V-Chip SMT, D10 x H12.4mm, 180µF, 35V; Manufacturer Part Number: 875075661007; Manufacturer: Wurth Elektronik; Capacitance Tolerance: +/-20%; Dissipation Factor: 12%; Endurance: 2000h; ESR: 22mΩ; Leakage Current: 1260µA; Ripple Current: 4100mA; Technical Reference: PSEF124181M035DVCTFB000; Category: Aluminum Polymer Capacitors; Match Code: WCAP-PSLC; ComponentLink1Description: Website Link; ComponentLink1URL: https://www.we-online.com/redexpert/article/875075661007?ad; ComponentLink2Description: Datasheet Link; ComponentLink2URL: https://www.we-online.com/redexpert/spec/875075661007?ad; Mount: Surface Mount; Operating Temperature Max: 105°C; Operating Temperature Min: -55°C; Packaging: Tape and Reel; Height: 12.4mm; Diameter: 10mm; Capacitance: 180µF; Rated Voltage (DC): 35V
footprint WCAP-PSLC_D10H12.4
simulation model 875075661007_180uF
pins: 1 P, 2 N
text: +

## 875075661008
designator C?, comment 220µF  (value not drawn)
WCAP-PSLC Aluminum Polymer Capacitor, V-Chip SMT, D10 x H12.4mm, 220µF, 35V; Manufacturer Part Number: 875075661008; Manufacturer: Wurth Elektronik; Capacitance Tolerance: +/-20%; Dissipation Factor: 12%; Endurance: 2000h; ESR: 22mΩ; Leakage Current: 1540µA; Ripple Current: 4100mA; Technical Reference: PSEF124221M035DVCTFB000; Category: Aluminum Polymer Capacitors; Match Code: WCAP-PSLC; ComponentLink1Description: Website Link; ComponentLink1URL: https://www.we-online.com/redexpert/article/875075661008?ad; ComponentLink2Description: Datasheet Link; ComponentLink2URL: https://www.we-online.com/redexpert/spec/875075661008?ad; Mount: Surface Mount; Operating Temperature Max: 105°C; Operating Temperature Min: -55°C; Packaging: Tape and Reel; Height: 12.4mm; Diameter: 10mm; Capacitance: 220µF; Rated Voltage (DC): 35V
footprint WCAP-PSLC_D10H12.4
simulation model 875075661008_220uF
pins: 1 P, 2 N
text: +

## 875075661009
designator C?, comment 270µF  (value not drawn)
WCAP-PSLC Aluminum Polymer Capacitor, V-Chip SMT, D10 x H12.4mm, 270µF, 35V; Manufacturer Part Number: 875075661009; Manufacturer: Wurth Elektronik; Capacitance Tolerance: +/-20%; Dissipation Factor: 12%; Endurance: 2000h; ESR: 20mΩ; Leakage Current: 1890µA; Ripple Current: 4400mA; Technical Reference: PSEF124271M035DVCTFB000; Category: Aluminum Polymer Capacitors; Match Code: WCAP-PSLC; ComponentLink1Description: Website Link; ComponentLink1URL: https://www.we-online.com/redexpert/article/875075661009?ad; ComponentLink2Description: Datasheet Link; ComponentLink2URL: https://www.we-online.com/redexpert/spec/875075661009?ad; Mount: Surface Mount; Operating Temperature Max: 105°C; Operating Temperature Min: -55°C; Packaging: Tape and Reel; Height: 12.4mm; Diameter: 10mm; Capacitance: 270µF; Rated Voltage (DC): 35V
footprint WCAP-PSLC_D10H12.4
simulation model 875075661009_270uF
pins: 1 P, 2 N
text: +

## 875075661010
designator C?, comment 330µF  (value not drawn)
WCAP-PSLC Aluminum Polymer Capacitor, V-Chip SMT, D10 x H12.4mm, 330µF, 35V; Manufacturer Part Number: 875075661010; Manufacturer: Wurth Elektronik; Capacitance Tolerance: +/-20%; Dissipation Factor: 12%; Endurance: 2000h; ESR: 20mΩ; Leakage Current: 2310µA; Ripple Current: 4400mA; Technical Reference: PSEF124331M035DVCTFB000; Category: Aluminum Polymer Capacitors; Match Code: WCAP-PSLC; ComponentLink1Description: Website Link; ComponentLink1URL: https://www.we-online.com/redexpert/article/875075661010?ad; ComponentLink2Description: Datasheet Link; ComponentLink2URL: https://www.we-online.com/redexpert/spec/875075661010?ad; Mount: Surface Mount; Operating Temperature Max: 105°C; Operating Temperature Min: -55°C; Packaging: Tape and Reel; Height: 12.4mm; Diameter: 10mm; Capacitance: 330µF; Rated Voltage (DC): 35V
footprint WCAP-PSLC_D10H12.4
simulation model 875075661010_330uF
pins: 1 P, 2 N
text: +

## 875075755001
designator C?, comment 10µF  (value not drawn)
WCAP-PSLC Aluminum Polymer Capacitor, V-Chip SMT, D8 x H11.7mm, 10µF, 50V; Manufacturer Part Number: 875075755001; Manufacturer: Wurth Elektronik; Capacitance Tolerance: +/-20%; Dissipation Factor: 12%; Endurance: 2000h; ESR: 40mΩ; Leakage Current: 100µA; Ripple Current: 1800mA; Technical Reference: PSEE117100M050DVCTFB000; Category: Aluminum Polymer Capacitors; Match Code: WCAP-PSLC; ComponentLink1Description: Website Link; ComponentLink1URL: https://www.we-online.com/redexpert/article/875075755001?ad; ComponentLink2Description: Datasheet Link; ComponentLink2URL: https://www.we-online.com/redexpert/spec/875075755001?ad; Mount: Surface Mount; Operating Temperature Max: 105°C; Operating Temperature Min: -55°C; Packaging: Tape and Reel; Height: 11.7mm; Diameter: 8mm; Capacitance: 10µF; Rated Voltage (DC): 50V
footprint WCAP-PSLC_D8H11.7
simulation model 875075755001_10uF
pins: 1 P, 2 N
text: +

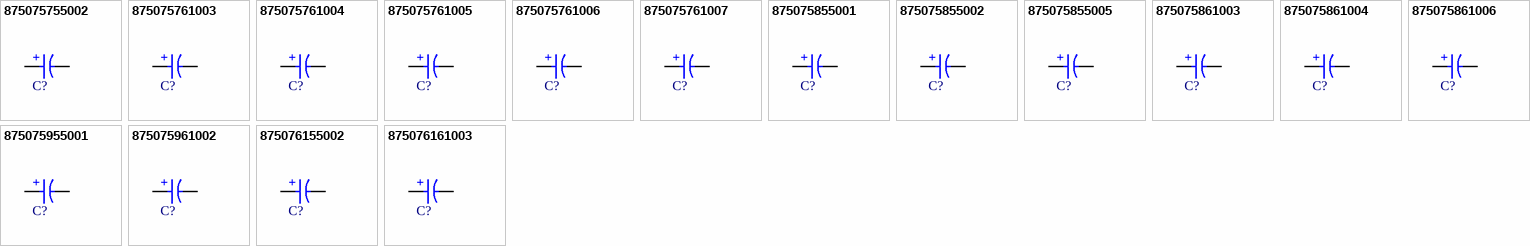
[diagram p1: symbols 875075755002 to 875076161003]

## 875075755002
designator C?, comment 22µF  (value not drawn)
WCAP-PSLC Aluminum Polymer Capacitor, V-Chip SMT, D8 x H11.7mm, 22µF, 50V; Manufacturer Part Number: 875075755002; Manufacturer: Wurth Elektronik; Capacitance Tolerance: +/-20%; Dissipation Factor: 12%; Endurance: 2000h; ESR: 40mΩ; Leakage Current: 220µA; Ripple Current: 1800mA; Technical Reference: PSEE117220M050DVCTFB000; Category: Aluminum Polymer Capacitors; Match Code: WCAP-PSLC; ComponentLink1Description: Website Link; ComponentLink1URL: https://www.we-online.com/redexpert/article/875075755002?ad; ComponentLink2Description: Datasheet Link; ComponentLink2URL: https://www.we-online.com/redexpert/spec/875075755002?ad; Mount: Surface Mount; Operating Temperature Max: 105°C; Operating Temperature Min: -55°C; Packaging: Tape and Reel; Height: 11.7mm; Diameter: 8mm; Capacitance: 22µF; Rated Voltage (DC): 50V
footprint WCAP-PSLC_D8H11.7
simulation model 875075755002_22uF
pins: 1 P, 2 N
text: +

## 875075761003
designator C?, comment 33µF  (value not drawn)
WCAP-PSLC Aluminum Polymer Capacitor, V-Chip SMT, D10 x H12.4mm, 33µF, 50V; Manufacturer Part Number: 875075761003; Manufacturer: Wurth Elektronik; Capacitance Tolerance: +/-20%; Dissipation Factor: 12%; Endurance: 2000h; ESR: 35mΩ; Leakage Current: 330µA; Ripple Current: 2000mA; Technical Reference: PSEF124330M050DVCTFB000; Category: Aluminum Polymer Capacitors; Match Code: WCAP-PSLC; ComponentLink1Description: Website Link; ComponentLink1URL: https://www.we-online.com/redexpert/article/875075761003?ad; ComponentLink2Description: Datasheet Link; ComponentLink2URL: https://www.we-online.com/redexpert/spec/875075761003?ad; Mount: Surface Mount; Operating Temperature Max: 105°C; Operating Temperature Min: -55°C; Packaging: Tape and Reel; Height: 12.4mm; Diameter: 10mm; Capacitance: 33µF; Rated Voltage (DC): 50V
footprint WCAP-PSLC_D10H12.4
simulation model 875075761003_33uF
pins: 1 P, 2 N
text: +

## 875075761004
designator C?, comment 39µF  (value not drawn)
WCAP-PSLC Aluminum Polymer Capacitor, V-Chip SMT, D10 x H12.4mm, 39µF, 50V; Manufacturer Part Number: 875075761004; Manufacturer: Wurth Elektronik; Capacitance Tolerance: +/-20%; Dissipation Factor: 12%; Endurance: 2000h; ESR: 35mΩ; Leakage Current: 390µA; Ripple Current: 2000mA; Technical Reference: PSEF124390M050DVCTFB000; Category: Aluminum Polymer Capacitors; Match Code: WCAP-PSLC; ComponentLink1Description: Website Link; ComponentLink1URL: https://www.we-online.com/redexpert/article/875075761004?ad; ComponentLink2Description: Datasheet Link; ComponentLink2URL: https://www.we-online.com/redexpert/spec/875075761004?ad; Mount: Surface Mount; Operating Temperature Max: 105°C; Operating Temperature Min: -55°C; Packaging: Tape and Reel; Height: 12.4mm; Diameter: 10mm; Capacitance: 39µF; Rated Voltage (DC): 50V
footprint WCAP-PSLC_D10H12.4
simulation model 875075761004_39uF
pins: 1 P, 2 N
text: +

## 875075761005
designator C?, comment 47µF  (value not drawn)
WCAP-PSLC Aluminum Polymer Capacitor, V-Chip SMT, D10 x H12.4mm, 47µF, 50V; Manufacturer Part Number: 875075761005; Manufacturer: Wurth Elektronik; Capacitance Tolerance: +/-20%; Dissipation Factor: 12%; Endurance: 2000h; ESR: 35mΩ; Leakage Current: 470µA; Ripple Current: 2000mA; Technical Reference: PSEF124470M050DVCTFB000; Category: Aluminum Polymer Capacitors; Match Code: WCAP-PSLC; ComponentLink1Description: Website Link; ComponentLink1URL: https://www.we-online.com/redexpert/article/875075761005?ad; ComponentLink2Description: Datasheet Link; ComponentLink2URL: https://www.we-online.com/redexpert/spec/875075761005?ad; Mount: Surface Mount; Operating Temperature Max: 105°C; Operating Temperature Min: -55°C; Packaging: Tape and Reel; Height: 12.4mm; Diameter: 10mm; Capacitance: 47µF; Rated Voltage (DC): 50V
footprint WCAP-PSLC_D10H12.4
simulation model 875075761005_47uF
pins: 1 P, 2 N
text: +

## 875075761006
designator C?, comment 56µF  (value not drawn)
WCAP-PSLC Aluminum Polymer Capacitor, V-Chip SMT, D10 x H12.4mm, 56µF, 50V; Manufacturer Part Number: 875075761006; Manufacturer: Wurth Elektronik; Capacitance Tolerance: +/-20%; Dissipation Factor: 12%; Endurance: 2000h; ESR: 35mΩ; Leakage Current: 560µA; Ripple Current: 2000mA; Technical Reference: PSEF124560M050DVCTFB000; Category: Aluminum Polymer Capacitors; Match Code: WCAP-PSLC; ComponentLink1Description: Website Link; ComponentLink1URL: https://www.we-online.com/redexpert/article/875075761006?ad; ComponentLink2Description: Datasheet Link; ComponentLink2URL: https://www.we-online.com/redexpert/spec/875075761006?ad; Mount: Surface Mount; Operating Temperature Max: 105°C; Operating Temperature Min: -55°C; Packaging: Tape and Reel; Height: 12.4mm; Diameter: 10mm; Capacitance: 56µF; Rated Voltage (DC): 50V
footprint WCAP-PSLC_D10H12.4
simulation model 875075761006_56uF
pins: 1 P, 2 N
text: +

## 875075761007
designator C?, comment 68µF  (value not drawn)
WCAP-PSLC Aluminum Polymer Capacitor, V-Chip SMT, D10 x H12.4mm, 68µF, 50V; Manufacturer Part Number: 875075761007; Manufacturer: Wurth Elektronik; Capacitance Tolerance: +/-20%; Dissipation Factor: 12%; Endurance: 2000h; ESR: 35mΩ; Leakage Current: 680µA; Ripple Current: 2000mA; Technical Reference: PSEF124680M050DVCTFB000; Category: Aluminum Polymer Capacitors; Match Code: WCAP-PSLC; ComponentLink1Description: Website Link; ComponentLink1URL: https://www.we-online.com/redexpert/article/875075761007?ad; ComponentLink2Description: Datasheet Link; ComponentLink2URL: https://www.we-online.com/redexpert/spec/875075761007?ad; Mount: Surface Mount; Operating Temperature Max: 105°C; Operating Temperature Min: -55°C; Packaging: Tape and Reel; Height: 12.4mm; Diameter: 10mm; Capacitance: 68µF; Rated Voltage (DC): 50V
footprint WCAP-PSLC_D10H12.4
simulation model 875075761007_68uF
pins: 1 P, 2 N
text: +

## 875075855001
designator C?, comment 10µF  (value not drawn)
WCAP-PSLC Aluminum Polymer Capacitor, V-Chip SMT, D8 x H11.7mm, 10µF, 63V; Manufacturer Part Number: 875075855001; Manufacturer: Wurth Elektronik; Capacitance Tolerance: +/-20%; Dissipation Factor: 12%; Endurance: 2000h; ESR: 35mΩ; Leakage Current: 126µA; Ripple Current: 1800mA; Technical Reference: PSEE117100M063DVCTFB000; Category: Aluminum Polymer Capacitors; Match Code: WCAP-PSLC; ComponentLink1Description: Website Link; ComponentLink1URL: https://www.we-online.com/redexpert/article/875075855001?ad; ComponentLink2Description: Datasheet Link; ComponentLink2URL: https://www.we-online.com/redexpert/spec/875075855001?ad; Mount: Surface Mount; Operating Temperature Max: 105°C; Operating Temperature Min: -55°C; Packaging: Tape and Reel; Height: 11.7mm; Diameter: 8mm; Capacitance: 10µF; Rated Voltage (DC): 63V
footprint WCAP-PSLC_D8H11.7
simulation model 875075855001_10uF
pins: 1 P, 2 N
text: +

## 875075855002
designator C?, comment 22µF  (value not drawn)
WCAP-PSLC Aluminum Polymer Capacitor, V-Chip SMT, D8 x H11.7mm, 22µF, 63V; Manufacturer Part Number: 875075855002; Manufacturer: Wurth Elektronik; Capacitance Tolerance: +/-20%; Dissipation Factor: 12%; Endurance: 2000h; ESR: 35mΩ; Leakage Current: 277.2µA; Ripple Current: 1800mA; Technical Reference: PSEE117220M063DVCTFB000; Category: Aluminum Polymer Capacitors; Match Code: WCAP-PSLC; ComponentLink1Description: Website Link; ComponentLink1URL: https://www.we-online.com/redexpert/article/875075855002?ad; ComponentLink2Description: Datasheet Link; ComponentLink2URL: https://www.we-online.com/redexpert/spec/875075855002?ad; Mount: Surface Mount; Operating Temperature Max: 105°C; Operating Temperature Min: -55°C; Packaging: Tape and Reel; Height: 11.7mm; Diameter: 8mm; Capacitance: 22µF; Rated Voltage (DC): 63V
footprint WCAP-PSLC_D8H11.7
simulation model 875075855002_22uF
pins: 1 P, 2 N
text: +

## 875075855005
designator C?, comment 39µF  (value not drawn)
WCAP-PSLC Aluminum Polymer Capacitor, V-Chip SMT, D8 x H11.7mm, 39µF, 63V; Manufacturer Part Number: 875075855005; Manufacturer: Wurth Elektronik; Capacitance Tolerance: +/-20%; Dissipation Factor: 12%; Endurance: 2000h; ESR: 27mΩ; Leakage Current: 491.4µA; Ripple Current: 3500mA; Technical Reference: PSEE117390M063DVCTFB000; Category: Aluminum Polymer Capacitors; Match Code: WCAP-PSLC; ComponentLink1Description: Website Link; ComponentLink1URL: https://www.we-online.com/redexpert/article/875075855005?ad; ComponentLink2Description: Datasheet Link; ComponentLink2URL: https://www.we-online.com/redexpert/spec/875075855005?ad; Mount: Surface Mount; Operating Temperature Max: 105°C; Operating Temperature Min: -55°C; Packaging: Tape and Reel; Height: 11.7mm; Diameter: 8mm; Capacitance: 39µF; Rated Voltage (DC): 63V
footprint WCAP-PSLC_D8H11.7
simulation model 875075855005_39uF
pins: 1 P, 2 N
text: +

## 875075861003
designator C?, comment 22µF  (value not drawn)
WCAP-PSLC Aluminum Polymer Capacitor, V-Chip SMT, D10 x H12.4mm, 22µF, 63V; Manufacturer Part Number: 875075861003; Manufacturer: Wurth Elektronik; Capacitance Tolerance: +/-20%; Dissipation Factor: 12%; Endurance: 2000h; ESR: 30mΩ; Leakage Current: 277.2µA; Ripple Current: 2000mA; Technical Reference: PSEF124220M063DVCTFB000; Category: Aluminum Polymer Capacitors; Match Code: WCAP-PSLC; ComponentLink1Description: Website Link; ComponentLink1URL: https://www.we-online.com/redexpert/article/875075861003?ad; ComponentLink2Description: Datasheet Link; ComponentLink2URL: https://www.we-online.com/redexpert/spec/875075861003?ad; Mount: Surface Mount; Operating Temperature Max: 105°C; Operating Temperature Min: -55°C; Packaging: Tape and Reel; Height: 12.4mm; Diameter: 10mm; Capacitance: 22µF; Rated Voltage (DC): 63V
footprint WCAP-PSLC_D10H12.4
simulation model 875075861003_22uF
pins: 1 P, 2 N
text: +

## 875075861004
designator C?, comment 33µF  (value not drawn)
WCAP-PSLC Aluminum Polymer Capacitor, V-Chip SMT, D10 x H12.4mm, 33µF, 63V; Manufacturer Part Number: 875075861004; Manufacturer: Wurth Elektronik; Capacitance Tolerance: +/-20%; Dissipation Factor: 12%; Endurance: 2000h; ESR: 30mΩ; Leakage Current: 415.8µA; Ripple Current: 2000mA; Technical Reference: PSEF124330M063DVCTFB000; Category: Aluminum Polymer Capacitors; Match Code: WCAP-PSLC; ComponentLink1Description: Website Link; ComponentLink1URL: https://www.we-online.com/redexpert/article/875075861004?ad; ComponentLink2Description: Datasheet Link; ComponentLink2URL: https://www.we-online.com/redexpert/spec/875075861004?ad; Mount: Surface Mount; Operating Temperature Max: 105°C; Operating Temperature Min: -55°C; Packaging: Tape and Reel; Height: 12.4mm; Diameter: 10mm; Capacitance: 33µF; Rated Voltage (DC): 63V
footprint WCAP-PSLC_D10H12.4
simulation model 875075861004_33uF
pins: 1 P, 2 N
text: +